# Altium schematic symbol library Resistors.SchLib: 123 symbols (part 2 of 2)
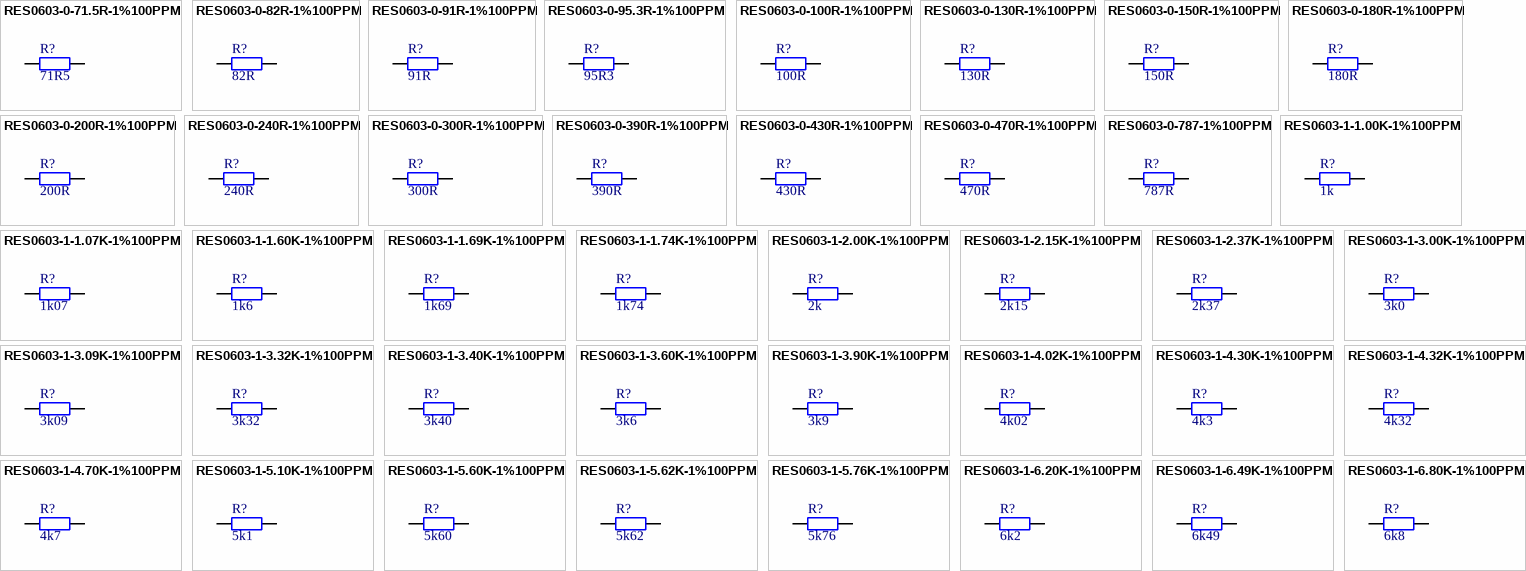
[diagram p4: symbols RES0603-0-71.5R-1%100PPM to RES0603-1-6.80K-1%100PPM]

## RES0603-1-5.76K-1%100PPM
designator R?, comment 5k76
Chip Resistor 0603 100mW 1% 100ppm; Manufacturer: Panasonic; Manufacturer No: ERJ-3EKF5761V; Tech: SMDR; Package: Res Chip 0603; Supplier 1: Digi-Key; Supplier Part Number 1: P5.76KHCT-ND; Supplier 2: Newark; Supplier Part Number 2: 97W7413; Supplier 3: Mouser; Supplier Part Number 3: 667-ERJ-3EKF5761V
simulation model RESISTOR (Resistor)
signal-integrity model Res
footprint RC0603N1R (Chip resistor 0603 ROUNDED PAD)
footprint RC0603N1X (Chip resistor 0603)
footprint RC0603RF1 (Chip resistor 0603 RF pad)
footprint RC0603RF1R (Chip resistor 0603 RF pad ROUNDED PAD)
pins: 1, 2
1 alternate drawing of the same symbol

## RES0603-1-6.20K-1%100PPM
designator R?, comment 6k2
Chip Resistor 0603 100mW 1% 100ppm; Manufacturer: Panasonic; Manufacturer No: ERJ-3EKF6201V; Tech: SMDR; Package: Res Chip 0603; Supplier 1: Mouser; Supplier Part Number 1: 667-ERJ-3EKF6201V; Supplier 2: Newark; Supplier Part Number 2: 53W4660; Supplier 3: Digi-Key; Supplier Part Number 3: P6.20KHCT-ND
simulation model RESISTOR (Resistor)
signal-integrity model Res
footprint RC0603N1R (Chip resistor 0603 ROUNDED PAD)
footprint RC0603N1X (Chip resistor 0603)
footprint RC0603RF1 (Chip resistor 0603 RF pad)
footprint RC0603RF1R (Chip resistor 0603 RF pad ROUNDED PAD)
pins: 1, 2
1 alternate drawing of the same symbol

## RES0603-1-6.49K-1%100PPM
designator R?, comment 6k49
Chip Resistor 0603 100mW 1% 100ppm; Manufacturer: Panasonic; Manufacturer No: ERJ-3EKF6491V; Tech: SMDR; Package: Res Chip 0603; Supplier 1: Newark; Supplier Part Number 1: 65T8506; Supplier 2: Mouser; Supplier Part Number 2: 667-ERJ-3EKF6491V; Supplier 3: Digi-Key; Supplier Part Number 3: P6.49KHDKR-ND
simulation model RESISTOR (Resistor)
signal-integrity model Res
footprint RC0603N1R (Chip resistor 0603 ROUNDED PAD)
footprint RC0603N1X (Chip resistor 0603)
footprint RC0603RF1 (Chip resistor 0603 RF pad)
footprint RC0603RF1R (Chip resistor 0603 RF pad ROUNDED PAD)
pins: 1, 2
1 alternate drawing of the same symbol

## RES0603-1-6.80K-1%100PPM
designator R?, comment 6k8
Chip Resistor 0603 100mW 1% 100ppm; Manufacturer: Panasonic; Manufacturer No: ERJ-3EKF6801V; Tech: SMDR; Package: Res Chip 0603; Supplier 1: Newark; Supplier Part Number 1: 64R5359; Supplier 2: Mouser; Supplier Part Number 2: 667-ERJ-3EKF6801V; Supplier 3: Digi-Key; Supplier Part Number 3: P6.80KHCT-ND
simulation model RESISTOR (Resistor)
signal-integrity model Res
footprint RC0603N1R (Chip resistor 0603 ROUNDED PAD)
footprint RC0603N1X (Chip resistor 0603)
footprint RC0603RF1 (Chip resistor 0603 RF pad)
footprint RC0603RF1R (Chip resistor 0603 RF pad ROUNDED PAD)
pins: 1, 2
1 alternate drawing of the same symbol

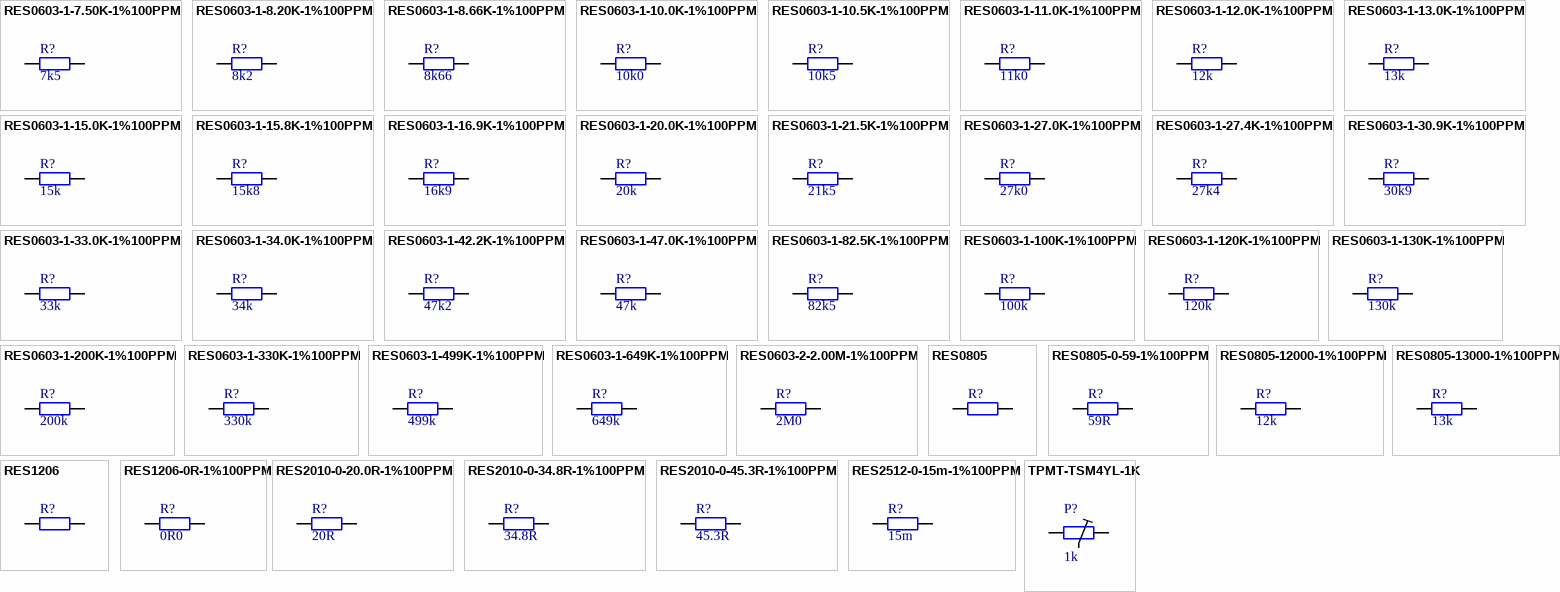
[diagram p2: symbols RES0603-1-7.50K-1%100PPM to TPMT-TSM4YL-1K]

## RES0603-1-7.50K-1%100PPM
designator R?, comment 7k5
Chip Resistor 0603 100mW 1% 100ppm; Manufacturer: Panasonic; Manufacturer No: ERJ-3EKF7501V; Tech: SMDR; Package: Res Chip 0603; Supplier 1: Newark; Supplier Part Number 1: 65T8520; Supplier 2: Digi-Key; Supplier Part Number 2: P7.50KHCT-ND; Supplier 3: Mouser; Supplier Part Number 3: 667-ERJ-3EKF7501V
simulation model RESISTOR (Resistor)
signal-integrity model Res
footprint RC0603N1R (Chip resistor 0603 ROUNDED PAD)
footprint RC0603N1X (Chip resistor 0603)
footprint RC0603RF1 (Chip resistor 0603 RF pad)
footprint RC0603RF1R (Chip resistor 0603 RF pad ROUNDED PAD)
pins: 1, 2
1 alternate drawing of the same symbol

## RES0603-1-8.20K-1%100PPM
designator R?, comment 8k2
Chip Resistor 0603 100mW 1% 100ppm; Manufacturer: Yageo; Manufacturer No: RC0603FR-078K2L; Tech: SMDR; Package: Res Chip 0603; Supplier 1: Mouser; Supplier Part Number 1: 603-RC0603FR-078K2L; Supplier 2: Newark; Supplier Part Number 2: 68R0116; Supplier 3: Digi-Key; Supplier Part Number 3: 311-8.20KHRCT-ND
simulation model RESISTOR (Resistor)
signal-integrity model Res
footprint RC0603N1R (Chip resistor 0603 ROUNDED PAD)
footprint RC0603N1X (Chip resistor 0603)
footprint RC0603RF1 (Chip resistor 0603 RF pad)
footprint RC0603RF1R (Chip resistor 0603 RF pad ROUNDED PAD)
pins: 1, 2
1 alternate drawing of the same symbol

## RES0603-1-8.66K-1%100PPM
designator R?, comment 8k66
Chip Resistor 0603 100mW 1% 100ppm; Manufacturer: Yageo; Manufacturer No: RC0603FR-078K66L; Tech: SMDR; Package: Res Chip 0603; Supplier 1: Mouser; Supplier Part Number 1: 603-RC0603FR-078K66L; Supplier 2: Newark; Supplier Part Number 2: 66R2580; Supplier 3: Digi-Key; Supplier Part Number 3: 311-8.66KHRCT-ND
simulation model RESISTOR (Resistor)
signal-integrity model Res
footprint RC0603N1R (Chip resistor 0603 ROUNDED PAD)
footprint RC0603N1X (Chip resistor 0603)
footprint RC0603RF1 (Chip resistor 0603 RF pad)
footprint RC0603RF1R (Chip resistor 0603 RF pad ROUNDED PAD)
pins: 1, 2
1 alternate drawing of the same symbol

## RES0603-1-10.0K-1%100PPM
designator R?, comment 10k0
Chip Resistor 0603 100mW 1% 100ppm; Manufacturer: Panasonic; Manufacturer No: ERJ-3EKF1002V; Tech: SMDR; Package: Res Chip 0603; Supplier 1: Newark; Supplier Part Number 1: 64R5309; Supplier 2: Digi-Key; Supplier Part Number 2: P10.0KHCT-ND; Supplier 3: Mouser; Supplier Part Number 3: 667-ERJ-3EKF1002V
simulation model RESISTOR (Resistor)
signal-integrity model Res
footprint RC0603N1R (Chip resistor 0603 ROUNDED PAD)
footprint RC0603N1X (Chip resistor 0603)
footprint RC0603RF1 (Chip resistor 0603 RF pad)
footprint RC0603RF1R (Chip resistor 0603 RF pad ROUNDED PAD)
pins: 1, 2
1 alternate drawing of the same symbol

## RES0603-1-10.5K-1%100PPM
designator R?, comment 10k5
Chip Resistor 0603 100mW 1% 100ppm; Manufacturer: Panasonic; Manufacturer No: ERJ-3EKF1052V; Tech: SMDR; Package: Res Chip 0603; Supplier 1: Newark; Supplier Part Number 1: 65T8311; Supplier 2: Digi-Key; Supplier Part Number 2: P10.5KHCT-ND; Supplier 3: Mouser; Supplier Part Number 3: 667-ERJ-3EKF1052V
simulation model RESISTOR (Resistor)
signal-integrity model Res
footprint RC0603N1R (Chip resistor 0603 ROUNDED PAD)
footprint RC0603N1X (Chip resistor 0603)
footprint RC0603RF1 (Chip resistor 0603 RF pad)
footprint RC0603RF1R (Chip resistor 0603 RF pad ROUNDED PAD)
pins: 1, 2
1 alternate drawing of the same symbol

## RES0603-1-11.0K-1%100PPM
designator R?, comment 11k0
Chip Resistor 0603 100mW 1% 100ppm; Manufacturer: Panasonic; Manufacturer No: ERJ-3EKF1102V; Tech: SMDR; Package: Res Chip 0603; Supplier 1: Digi-Key; Supplier Part Number 1: P11.0KHCT-ND; Supplier 2: Mouser; Supplier Part Number 2: 667-ERJ-3EKF1102V; Supplier 3: Newark; Supplier Part Number 3: 65T8315
simulation model RESISTOR (Resistor)
signal-integrity model Res
footprint RC0603N1R (Chip resistor 0603 ROUNDED PAD)
footprint RC0603N1X (Chip resistor 0603)
footprint RC0603RF1 (Chip resistor 0603 RF pad)
footprint RC0603RF1R (Chip resistor 0603 RF pad ROUNDED PAD)
pins: 1, 2
1 alternate drawing of the same symbol

## RES0603-1-12.0K-1%100PPM
designator R?, comment 12k
Chip Resistor 0603 100mW 1% 100ppm; Manufacturer: Panasonic; Manufacturer No: ERJ-3EKF1202V; Tech: SMDR; Package: Res Chip 0603; Supplier 1: Mouser; Supplier Part Number 1: 667-ERJ-3EKF1202V; Supplier 2: Newark; Supplier Part Number 2: 64R5315; Supplier 3: Digi-Key; Supplier Part Number 3: P12.0KHCT-ND
simulation model RESISTOR (Resistor)
signal-integrity model Res
footprint RC0603N1R (Chip resistor 0603 ROUNDED PAD)
footprint RC0603N1X (Chip resistor 0603)
footprint RC0603RF1 (Chip resistor 0603 RF pad)
footprint RC0603RF1R (Chip resistor 0603 RF pad ROUNDED PAD)
pins: 1, 2
1 alternate drawing of the same symbol

## RES0603-1-13.0K-1%100PPM
designator R?, comment 13k
Chip Resistor 0603 100mW 1% 100ppm; Manufacturer: Panasonic; Manufacturer No: ERJ-3EKF1302V; Tech: SMDR; Package: Res Chip 0603; Supplier 1: Mouser; Supplier Part Number 1: 667-ERJ-3EKF1302V; Supplier 2: Digi-Key; Supplier Part Number 2: P13.0KHCT-ND; Supplier 3: Newark; Supplier Part Number 3: 65T8332
simulation model RESISTOR (Resistor)
signal-integrity model Res
footprint RC0603N1R (Chip resistor 0603 ROUNDED PAD)
footprint RC0603N1X (Chip resistor 0603)
footprint RC0603RF1 (Chip resistor 0603 RF pad)
footprint RC0603RF1R (Chip resistor 0603 RF pad ROUNDED PAD)
pins: 1, 2
1 alternate drawing of the same symbol

## RES0603-1-15.0K-1%100PPM
designator R?, comment 15k
Chip Resistor 0603 100mW 1% 100ppm; Manufacturer: Yageo; Manufacturer No: RC0603FR-0715KL; Tech: SMDR; Package: Res Chip 0603; Supplier 1: Newark; Supplier Part Number 1: 68R0059; Supplier 2: Digi-Key; Supplier Part Number 2: 311-15.0KHRCT-ND; Supplier 3: Mouser; Supplier Part Number 3: 603-RC0603FR-0715KL
simulation model RESISTOR (Resistor)
signal-integrity model Res
footprint RC0603N1R (Chip resistor 0603 ROUNDED PAD)
footprint RC0603N1X (Chip resistor 0603)
footprint RC0603RF1 (Chip resistor 0603 RF pad)
footprint RC0603RF1R (Chip resistor 0603 RF pad ROUNDED PAD)
pins: 1, 2
1 alternate drawing of the same symbol

## RES0603-1-15.8K-1%100PPM
designator R?, comment 15k8
Chip Resistor 0603 100mW 1% 100ppm; Manufacturer: Panasonic; Manufacturer No: ERJ-3EKF1582V; Tech: SMDR; Package: Res Chip 0603; Supplier 1: Mouser; Supplier Part Number 1: 667-ERJ-3EKF1582V; Supplier 2: Digi-Key; Supplier Part Number 2: P15.8KHCT-ND; Supplier 3: Newark; Supplier Part Number 3: 97W7264
simulation model RESISTOR (Resistor)
signal-integrity model Res
footprint RC0603N1R (Chip resistor 0603 ROUNDED PAD)
footprint RC0603N1X (Chip resistor 0603)
footprint RC0603RF1 (Chip resistor 0603 RF pad)
footprint RC0603RF1R (Chip resistor 0603 RF pad ROUNDED PAD)
pins: 1, 2
1 alternate drawing of the same symbol

## RES0603-1-16.9K-1%100PPM
designator R?, comment 16k9
Chip Resistor 0603 100mW 1% 100ppm; Manufacturer: Panasonic; Manufacturer No: ERJ-3EKF1692V; Tech: SMDR; Package: Res Chip 0603; Supplier 1: Mouser; Supplier Part Number 1: 667-ERJ-3EKF1692V; Supplier 2: Newark; Supplier Part Number 2: 65T8351; Supplier 3: Digi-Key; Supplier Part Number 3: P16.9KHCT-ND
simulation model RESISTOR (Resistor)
signal-integrity model Res
footprint RC0603N1R (Chip resistor 0603 ROUNDED PAD)
footprint RC0603N1X (Chip resistor 0603)
footprint RC0603RF1 (Chip resistor 0603 RF pad)
footprint RC0603RF1R (Chip resistor 0603 RF pad ROUNDED PAD)
pins: 1, 2
1 alternate drawing of the same symbol

## RES0603-1-20.0K-1%100PPM
designator R?, comment 20k
Chip Resistor 0603 100mW 1% 100ppm; Manufacturer: Panasonic; Manufacturer No: ERJ-3EKF2002V; Tech: SMDR; Package: Res Chip 0603; Supplier 1: Digi-Key; Supplier Part Number 1: P20.0KHCT-ND; Supplier 2: Newark; Supplier Part Number 2: 65T8367; Supplier 3: Mouser; Supplier Part Number 3: 667-ERJ-3EKF2002V
simulation model RESISTOR (Resistor)
signal-integrity model Res
footprint RC0603N1R (Chip resistor 0603 ROUNDED PAD)
footprint RC0603N1X (Chip resistor 0603)
footprint RC0603RF1 (Chip resistor 0603 RF pad)
footprint RC0603RF1R (Chip resistor 0603 RF pad ROUNDED PAD)
pins: 1, 2
1 alternate drawing of the same symbol

## RES0603-1-21.5K-1%100PPM
designator R?, comment 21k5
Chip Resistor 0603 100mW 1% 100ppm; Manufacturer: Panasonic; Manufacturer No: ERJ-3EKF2152V; Tech: SMDR; Package: Res Chip 0603; Supplier 1: Mouser; Supplier Part Number 1: 667-ERJ-3EKF2152V; Supplier 2: Digi-Key; Supplier Part Number 2: P21.5KHCT-ND; Supplier 3: Newark; Supplier Part Number 3: 97W7298
simulation model RESISTOR (Resistor)
signal-integrity model Res
footprint RC0603N1R (Chip resistor 0603 ROUNDED PAD)
footprint RC0603N1X (Chip resistor 0603)
footprint RC0603RF1 (Chip resistor 0603 RF pad)
footprint RC0603RF1R (Chip resistor 0603 RF pad ROUNDED PAD)
pins: 1, 2
1 alternate drawing of the same symbol

## RES0603-1-27.0K-1%100PPM
designator R?, comment 27k0
Chip Resistor 0603 100mW 1% 100ppm; Manufacturer: Panasonic; Manufacturer No: ERJ-3EKF2702V; Tech: SMDR; Package: Res Chip 0603; Supplier 1: Mouser; Supplier Part Number 1: 667-ERJ-3EKF2702V; Supplier 2: Digi-Key; Supplier Part Number 2: P27.0KHCT-ND; Supplier 3: Newark; Supplier Part Number 3: 64R5335
simulation model RESISTOR (Resistor)
signal-integrity model Res
footprint RC0603N1R (Chip resistor 0603 ROUNDED PAD)
footprint RC0603N1X (Chip resistor 0603)
footprint RC0603RF1 (Chip resistor 0603 RF pad)
footprint RC0603RF1R (Chip resistor 0603 RF pad ROUNDED PAD)
pins: 1, 2
1 alternate drawing of the same symbol

## RES0603-1-27.4K-1%100PPM
designator R?, comment 27k4
Chip Resistor 0603 100mW 1% 100ppm; Manufacturer: Panasonic; Manufacturer No: ERJ-3EKF2742V; Tech: SMDR; Package: Res Chip 0603; Supplier 1: Newark; Supplier Part Number 1: 97W7328; Supplier 2: Digi-Key; Supplier Part Number 2: P27.4KHCT-ND; Supplier 3: Mouser; Supplier Part Number 3: 667-ERJ-3EKF2742V
simulation model RESISTOR (Resistor)
signal-integrity model Res
footprint RC0603N1R (Chip resistor 0603 ROUNDED PAD)
footprint RC0603N1X (Chip resistor 0603)
footprint RC0603RF1 (Chip resistor 0603 RF pad)
footprint RC0603RF1R (Chip resistor 0603 RF pad ROUNDED PAD)
pins: 1, 2
1 alternate drawing of the same symbol

## RES0603-1-30.9K-1%100PPM
designator R?, comment 30k9
Chip Resistor 0603 100mW 1% 100ppm; Manufacturer: Panasonic; Manufacturer No: ERJ-3EKF3092V; Tech: SMDR; Package: Res Chip 0603; Supplier 1: Mouser; Supplier Part Number 1: 667-ERJ-3EKF3092V; Supplier 2: Digi-Key; Supplier Part Number 2: P30.9KHCT-ND; Supplier 3: Newark; Supplier Part Number 3: 97W7344
simulation model RESISTOR (Resistor)
signal-integrity model Res
footprint RC0603N1R (Chip resistor 0603 ROUNDED PAD)
footprint RC0603N1X (Chip resistor 0603)
footprint RC0603RF1 (Chip resistor 0603 RF pad)
footprint RC0603RF1R (Chip resistor 0603 RF pad ROUNDED PAD)
pins: 1, 2
1 alternate drawing of the same symbol

## RES0603-1-33.0K-1%100PPM
designator R?, comment 33k
Chip Resistor 0603 100mW 1% 100ppm; Manufacturer: Panasonic; Manufacturer No: ERJ-3EKF3302V; Tech: SMDR; Package: Res Chip 0603; Supplier 1: Mouser; Supplier Part Number 1: 667-ERJ-3EKF3302V; Supplier 2: Newark; Supplier Part Number 2: 64R5340; Supplier 3: Digi-Key; Supplier Part Number 3: P33.0KHCT-ND
simulation model RESISTOR (Resistor)
signal-integrity model Res
footprint RC0603N1R (Chip resistor 0603 ROUNDED PAD)
footprint RC0603N1X (Chip resistor 0603)
footprint RC0603RF1 (Chip resistor 0603 RF pad)
footprint RC0603RF1R (Chip resistor 0603 RF pad ROUNDED PAD)
pins: 1, 2
1 alternate drawing of the same symbol

## RES0603-1-34.0K-1%100PPM
designator R?, comment 34k
Chip Resistor 0603 100mW 1% 100ppm; Manufacturer: Panasonic; Manufacturer No: ERJ-3EKF3402V; Tech: SMDR; Package: Res Chip 0603; Supplier 1: Digi-Key; Supplier Part Number 1: P34.0KHDKR-ND; Supplier 2: Mouser; Supplier Part Number 2: 667-ERJ-3EKF3402V
simulation model RESISTOR (Resistor)
signal-integrity model Res
footprint RC0603N1R (Chip resistor 0603 ROUNDED PAD)
footprint RC0603N1X (Chip resistor 0603)
footprint RC0603RF1 (Chip resistor 0603 RF pad)
footprint RC0603RF1R (Chip resistor 0603 RF pad ROUNDED PAD)
pins: 1, 2
1 alternate drawing of the same symbol

## RES0603-1-42.2K-1%100PPM
designator R?, comment 47k2
Chip Resistor 0603 100mW 1% 100ppm; Manufacturer: Panasonic; Manufacturer No: ERJ-3EKF4222V; Tech: SMDR; Package: Res Chip 0603; Supplier 1: Mouser; Supplier Part Number 1: 667-ERJ-3EKF4222V; Supplier 2: Octopart; Supplier Part Number 2: Newark - 65T8451; Supplier 3: Octopart; Supplier Part Number 3: Digi-Key - P42.2KHCT-ND
simulation model RESISTOR (Resistor)
signal-integrity model Res
footprint RC0603N1R (Chip resistor 0603 ROUNDED PAD)
footprint RC0603N1X (Chip resistor 0603)
footprint RC0603RF1 (Chip resistor 0603 RF pad)
footprint RC0603RF1R (Chip resistor 0603 RF pad ROUNDED PAD)
pins: 1, 2
1 alternate drawing of the same symbol

## RES0603-1-47.0K-1%100PPM
designator R?, comment 47k
Chip Resistor 0603 100mW 1% 100ppm; Manufacturer: Panasonic; Manufacturer No: ERJ-3EKF4702V; Tech: SMDR; Package: Res Chip 0603; Supplier 1: Digi-Key; Supplier Part Number 1: P47.0KHCT-ND; Supplier 2: Newark; Supplier Part Number 2: 64R5350; Supplier 3: Mouser; Supplier Part Number 3: 667-ERJ-3EKF4702V
simulation model RESISTOR (Resistor)
signal-integrity model Res
footprint RC0603N1R (Chip resistor 0603 ROUNDED PAD)
footprint RC0603N1X (Chip resistor 0603)
footprint RC0603RF1 (Chip resistor 0603 RF pad)
footprint RC0603RF1R (Chip resistor 0603 RF pad ROUNDED PAD)
pins: 1, 2
1 alternate drawing of the same symbol

## RES0603-1-82.5K-1%100PPM
designator R?, comment 82k5
Chip Resistor 0603 100mW 1% 100ppm; Manufacturer: Panasonic; Manufacturer No: ERJ-3EKF8252V; Tech: SMDR; Package: Res Chip 0603; Supplier 1: Digi-Key; Supplier Part Number 1: P82.5KHCT-ND; Supplier 2: Mouser; Supplier Part Number 2: 667-ERJ-3EKF8252V; Supplier 3: Newark; Supplier Part Number 3: 65T8532
simulation model RESISTOR (Resistor)
signal-integrity model Res
footprint RC0603N1R (Chip resistor 0603 ROUNDED PAD)
footprint RC0603N1X (Chip resistor 0603)
footprint RC0603RF1 (Chip resistor 0603 RF pad)
footprint RC0603RF1R (Chip resistor 0603 RF pad ROUNDED PAD)
pins: 1, 2
1 alternate drawing of the same symbol

## RES0603-1-100K-1%100PPM
designator R?, comment 100k
Chip Resistor 0603 100mW 1% 100ppm; Manufacturer: Panasonic; Manufacturer No: ERJ-3EKF1003V; Tech: SMDR; Package: Res Chip 0603; Supplier 1: Mouser; Supplier Part Number 1: 667-ERJ-3EKF1003V; Supplier 2: Newark; Supplier Part Number 2: 64R5310; Supplier 3: Digi-Key; Supplier Part Number 3: P100KHCT-ND
simulation model RESISTOR (Resistor)
signal-integrity model Res
footprint RC0603N1R (Chip resistor 0603 ROUNDED PAD)
footprint RC0603N1X (Chip resistor 0603)
footprint RC0603RF1 (Chip resistor 0603 RF pad)
footprint RC0603RF1R (Chip resistor 0603 RF pad ROUNDED PAD)
pins: 1, 2
1 alternate drawing of the same symbol

## RES0603-1-120K-1%100PPM
designator R?, comment 120k
Chip Resistor 0603 100mW 1% 100ppm; Manufacturer: Panasonic; Manufacturer No: ERJ-3EKF1203V; Tech: SMDR; Package: Res Chip 0603; Supplier 1: Newark; Supplier Part Number 1: 64R5316; Supplier 2: Mouser; Supplier Part Number 2: 667-ERJ-3EKF1203V; Supplier 3: Digi-Key; Supplier Part Number 3: P120KHCT-ND
simulation model RESISTOR (Resistor)
signal-integrity model Res
footprint RC0603N1R (Chip resistor 0603 ROUNDED PAD)
footprint RC0603N1X (Chip resistor 0603)
footprint RC0603RF1 (Chip resistor 0603 RF pad)
footprint RC0603RF1R (Chip resistor 0603 RF pad ROUNDED PAD)
pins: 1, 2
1 alternate drawing of the same symbol

## RES0603-1-130K-1%100PPM
designator R?, comment 130k
Chip Resistor 0603 100mW 1% 100ppm; Manufacturer: Panasonic; Manufacturer No: ERJ-3EKF1303V; Tech: SMDR; Package: Res Chip 0603; Supplier 1: Mouser; Supplier Part Number 1: 667-ERJ-3EKF1303V; Supplier 2: Newark; Supplier Part Number 2: 65T8333; Supplier 3: Digi-Key; Supplier Part Number 3: P130KHDKR-ND
simulation model RESISTOR (Resistor)
signal-integrity model Res
footprint RC0603N1R (Chip resistor 0603 ROUNDED PAD)
footprint RC0603N1X (Chip resistor 0603)
footprint RC0603RF1 (Chip resistor 0603 RF pad)
footprint RC0603RF1R (Chip resistor 0603 RF pad ROUNDED PAD)
pins: 1, 2
1 alternate drawing of the same symbol

## RES0603-1-200K-1%100PPM
designator R?, comment 200k
Chip Resistor 0603 100mW 1% 100ppm; Manufacturer: Panasonic; Manufacturer No: ERJ-3EKF2003V; Tech: SMDR; Package: Res Chip 0603; Supplier 1: Newark; Supplier Part Number 1: 65T8368; Supplier 2: Mouser; Supplier Part Number 2: 667-ERJ-3EKF2003V; Supplier 3: Digi-Key; Supplier Part Number 3: P200KHCT-ND
simulation model RESISTOR (Resistor)
signal-integrity model Res
footprint RC0603N1R (Chip resistor 0603 ROUNDED PAD)
footprint RC0603N1X (Chip resistor 0603)
footprint RC0603RF1 (Chip resistor 0603 RF pad)
footprint RC0603RF1R (Chip resistor 0603 RF pad ROUNDED PAD)
pins: 1, 2
1 alternate drawing of the same symbol

## RES0603-1-330K-1%100PPM
designator R?, comment 330k
Chip Resistor 0603 100mW 1% 100ppm; Manufacturer: Panasonic; Manufacturer No: ERJ-3EKF3303V; Tech: SMDR; Package: Res Chip 0603; Supplier 1: Digi-Key; Supplier Part Number 1: P330KHDKR-ND; Supplier 2: Newark; Supplier Part Number 2: 64R5341; Supplier 3: Mouser; Supplier Part Number 3: 667-ERJ-3EKF3303V
simulation model RESISTOR (Resistor)
signal-integrity model Res
footprint RC0603N1R (Chip resistor 0603 ROUNDED PAD)
footprint RC0603N1X (Chip resistor 0603)
footprint RC0603RF1 (Chip resistor 0603 RF pad)
footprint RC0603RF1R (Chip resistor 0603 RF pad ROUNDED PAD)
pins: 1, 2
1 alternate drawing of the same symbol

## RES0603-1-499K-1%100PPM
designator R?, comment 499k
Chip Resistor 0603 100mW 1% 100ppm; Manufacturer: Panasonic; Manufacturer No: ERJ-3EKF4993V; Tech: SMDR; Package: Res Chip 0603; Supplier 1: Newark; Supplier Part Number 1: 53W4639; Supplier 2: Digi-Key; Supplier Part Number 2: P499KHDKR-ND; Supplier 3: Mouser; Supplier Part Number 3: 667-ERJ-3EKF4993V
simulation model RESISTOR (Resistor)
signal-integrity model Res
footprint RC0603N1R (Chip resistor 0603 ROUNDED PAD)
footprint RC0603N1X (Chip resistor 0603)
footprint RC0603RF1 (Chip resistor 0603 RF pad)
footprint RC0603RF1R (Chip resistor 0603 RF pad ROUNDED PAD)
pins: 1, 2
1 alternate drawing of the same symbol

## RES0603-1-649K-1%100PPM
designator R?, comment 649k
Chip Resistor 0603 100mW 1% 100ppm; Manufacturer: Panasonic; Manufacturer No: ERJ-3EKF6493V; Tech: SMDR; Package: Res Chip 0603; Supplier 1: Mouser; Supplier Part Number 1: 667-ERJ-3EKF6493V; Supplier 2: Newark; Supplier Part Number 2: 53W4665; Supplier 3: Digi-Key; Supplier Part Number 3: P649KHDKR-ND
simulation model RESISTOR (Resistor)
signal-integrity model Res
footprint RC0603N1R (Chip resistor 0603 ROUNDED PAD)
footprint RC0603N1X (Chip resistor 0603)
footprint RC0603RF1 (Chip resistor 0603 RF pad)
footprint RC0603RF1R (Chip resistor 0603 RF pad ROUNDED PAD)
pins: 1, 2
1 alternate drawing of the same symbol

## RES0603-2-2.00M-1%100PPM
designator R?, comment 2M0
Chip Resistor 0603 100mW 1% 100ppm; Manufacturer: Panasonic; Manufacturer No: ERJ-3EKF2004V; Tech: SMDR; Package: Res Chip 0603; Supplier 1: Mouser; Supplier Part Number 1: 667-ERJ-3EKF2004V; Supplier 2: Newark; Supplier Part Number 2: 53W4560; Supplier 3: Digi-Key; Supplier Part Number 3: P2.00MHCT-ND
simulation model RESISTOR (Resistor)
signal-integrity model Res
footprint RC0603N1R (Chip resistor 0603 ROUNDED PAD)
footprint RC0603N1X (Chip resistor 0603)
footprint RC0603RF1 (Chip resistor 0603 RF pad)
footprint RC0603RF1R (Chip resistor 0603 RF pad ROUNDED PAD)
pins: 1, 2
1 alternate drawing of the same symbol

## RES0805
designator R?
Chip Resistor 0805; Comment2: 0.125W 1% 200ppm; Sort: 110; Tech: SMDR; Package: Res Chip 0805; Price: 0.002
simulation model RESISTOR (Resistor)
signal-integrity model Res
footprint RC0805N1R (Chip resistor 0805 ROUNDED PAD)
footprint RC0805N1X (Chip resistor 0805)
pins: 1, 2

## RES0805-0-59-1%100PPM
designator R?, comment 59R
Chip Resistor 0805 125mW 1% 100ppm; Manufacturer: Panasonic; Manufacturer No: ERJ-6ENF59R0V; Tech: SMDR; Package: Res Chip 0805; Supplier 1: Digi-Key; Supplier Part Number 1: P59.0CCT-ND; Supplier 2: Mouser; Supplier Part Number 2: 667-ERJ-6ENF59R0V; Supplier 3: Newark; Supplier Part Number 3: 90W3484
simulation model RESISTOR (Resistor)
signal-integrity model Res
footprint RC0805N1R (Chip resistor 0805 ROUNDED PAD)
footprint RC0805N1X (Chip resistor 0805)
pins: 1, 2
1 alternate drawing of the same symbol

## RES0805-12000-1%100PPM
designator R?, comment 12k
Chip Resistor 0805 125mW 1% 100ppm; Manufacturer: Panasonic; Manufacturer No: ERJ-3EKF1202V; Tech: SMDR; Package: Res Chip 0805; Supplier 1: Digi-Key; Supplier Part Number 1: P12.0KHCT-ND; Supplier 2: Newark; Supplier Part Number 2: 64R5315; Supplier 3: Mouser; Supplier Part Number 3: 667-ERJ-3EKF1202V
simulation model RESISTOR (Resistor)
signal-integrity model Res
footprint RC0805N1R (Chip resistor 0805 ROUNDED PAD)
footprint RC0805N1X (Chip resistor 0805)
pins: 1, 2
1 alternate drawing of the same symbol

## RES0805-13000-1%100PPM
designator R?, comment 13k
Chip Resistor 0805 125mW 1% 100ppm; Manufacturer: Panasonic; Manufacturer No: ERJ-6ENF1302V; Tech: SMDR; Package: Res Chip 0805; Supplier 1: Newark; Supplier Part Number 1: 53W4727; Supplier 2: Digi-Key; Supplier Part Number 2: P13.0KCCT-ND; Supplier 3: Mouser; Supplier Part Number 3: 667-ERJ-6ENF1302V
simulation model RESISTOR (Resistor)
signal-integrity model Res
footprint RC0805N1R (Chip resistor 0805 ROUNDED PAD)
footprint RC0805N1X (Chip resistor 0805)
pins: 1, 2
1 alternate drawing of the same symbol

## RES1206
designator R?
Chip Resistor 1206; Comment2: 0.25W 1% 200ppm; Sort: 110; Tech: SMDR; Package: Res Chip 1206; Price: 0.002
simulation model RESISTOR (Resistor)
signal-integrity model Res
footprint CC1206N1R (Chip capacitor 1206 ROUNDED PAD)
footprint CC1206N1X (Chip capacitor 1206)
pins: 1, 2

## RES1206-0R-1%100PPM
designator R?, comment 0R0
Chip Resistor 1206 250mW 1% 100ppm; Manufacturer: Panasonic; Manufacturer No: ERJ-8GEY0R00V; Tech: SMDR; Package: Chip Resistor 1206; Supplier 1: Mouser; Supplier Part Number 1: 667-ERJ-8GEY0R00V; Supplier 2: Newark; Supplier Part Number 2: 65T8967; Supplier 3: Digi-Key; Supplier Part Number 3: P0.0ECT-ND
simulation model RESISTOR (Resistor)
signal-integrity model Res
footprint CC1206N1R (Chip capacitor 1206 ROUNDED PAD)
footprint CC1206N1X (Chip capacitor 1206)
footprint RC1206-NOAPD (Chip resistor 1206)
pins: 1, 2
1 alternate drawing of the same symbol

## RES2010-0-20.0R-1%100PPM
designator R?, comment 20R
Chip Resistor 2010 500mW 1% 100ppm; Manufacturer: Rohm; Manufacturer No: MCR50JZHF20R0; Tech: SMDR; Package: Chip Resistor 2010; Supplier 1: Digi-Key; Supplier Part Number 1: RHM20.0BFCT-ND; Supplier 2: Mouser; Supplier Part Number 2: N/A
simulation model RESISTOR (Resistor)
signal-integrity model Res
footprint RC2010N1R (Chip resistor 2010 ROUNDED PAD)
pins: 1, 2
1 alternate drawing of the same symbol

## RES2010-0-34.8R-1%100PPM
designator R?, comment 34.8R
Chip Resistor 2010 500mW 1% 100ppm; Manufacturer: Panasonic; Manufacturer No: ERJ-12SF34R8U; Tech: SMDR; Package: Chip Resistor 2010; Supplier 1: Digi-Key; Supplier Part Number 1: P34.8ACDKR-ND; Supplier 2: Mouser; Supplier Part Number 2: 667-ERJ-12SF34R8U
simulation model RESISTOR (Resistor)
signal-integrity model Res
footprint RC2010N1R (Chip resistor 2010 ROUNDED PAD)
pins: 1, 2
1 alternate drawing of the same symbol

## RES2010-0-45.3R-1%100PPM
designator R?, comment 45.3R
Chip Resistor 2010 500mW 1% 100ppm; Manufacturer: Rohm; Manufacturer No: MCR50JZHF45R3; Tech: SMDR; Package: Chip Resistor 2010; Supplier 1: Digi-Key; Supplier Part Number 1: RHM45.3BFCT-ND; Supplier 2: Mouser; Supplier Part Number 2: N/A
simulation model RESISTOR (Resistor)
signal-integrity model Res
footprint RC2010N1R (Chip resistor 2010 ROUNDED PAD)
pins: 1, 2
1 alternate drawing of the same symbol

## RES2512-0-15m-1%100PPM
designator R?, comment 15m
Chip Resistor 2512 125mW 1% 100ppm; Manufacturer: Rohm; Manufacturer No: PML100HZPJV1L5; Tech: SMDR; Package: Res Chip 2512; Supplier 1: Digi-Key; Supplier Part Number 1: RHM.0015BRDKR-ND
simulation model RESISTOR (Resistor)
signal-integrity model Res
footprint RC2512N1R (Chip resistor 2512 ROUNDED PAD)
footprint RC2512N1X (Chip resistor 2512)
pins: 1, 2
1 alternate drawing of the same symbol

## TPMT-TSM4YL-1K
designator P?, comment 1k
SMD Trimmer potentiometer 13turns 100ppm; Manufacturer: Vishay; Manufacturer No: TSM4YL102KR05; Tech: THDW; Package: TSM4-YL; Supplier 1: Newark; Supplier Part Number 1: 02M5385; Supplier 2: Mouser; Supplier Part Number 2: 72-TSM4YL102KR05
simulation model RESISTOR (Resistor)
signal-integrity model Res
footprint TSM4-YL (Trimmer potentiometer vertical 4.8X3.5X5.1mm)
pins: 1, 2, 3

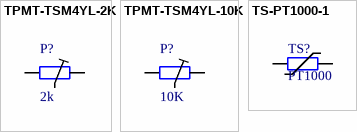
[diagram p3: symbols TPMT-TSM4YL-2K to TS-PT1000-1]

## TPMT-TSM4YL-2K
designator P?, comment 2k
SMD Trimmer potentiometer 13 turns 100ppm; Manufacturer: Vishay; Manufacturer No: TSM4YL202KR05; Tech: THDW; Package: TSM4-YL; Supplier 1: Newark; Supplier Part Number 1: 26M4383; Supplier 2: Mouser; Supplier Part Number 2: 75-TSM4YL202KR05
simulation model RESISTOR (Resistor)
signal-integrity model Res
footprint TSM4-YL (Trimmer potentiometer vertical 4.8X3.5X5.1mm)
pins: 1, 2, 3

## TPMT-TSM4YL-10K
designator P?, comment 10K
SMD Trimmer potentiometer 13 turns 100ppm; Manufacturer: Vishay; Manufacturer No: TSM4YL103KR05; Tech: THDW; Package: TSM4-YL; Supplier 1: Newark; Supplier Part Number 1: 02M5380; Supplier 2: Mouser; Supplier Part Number 2: 72-TSM4YL103KR05
simulation model RESISTOR (Resistor)
signal-integrity model Res
footprint TSM4-YL (Trimmer potentiometer vertical 4.8X3.5X5.1mm)
pins: 1, 2, 3

## TS-PT1000-1
designator TS?, comment PT1000
PT1000 2.3x2mm wired 3850ppm/K, class A, -90..300degC; Manufacturer: IST; Manufacturer No: P1K0.232.6W.A.010; Tech: THDM; Package: Temp sens 2.3x2mm; Supplier 1: Newark; Supplier Part Number 1: 24M9656
simulation model RESISTOR (Resistor)
signal-integrity model Res
footprint RPT1000-2.3x2 (Temp. sensror PT1000 2,3x2mm)
pins: 1, 2